# EAGLE library part BM14B(0.8)-24DS-0.4V(53) (library BM14B(0.8)-24DS-0.4V_pinout)
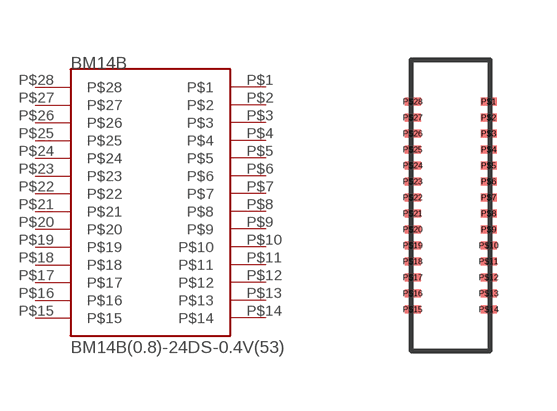
[diagram p1: symbol with the pads of BM14B(0.8)-24DS-0.4V(53); footprint BM14B(0.8)-24DS-0.4V(53)]

Designator prefix BM14B

## BM14B(0.8)-24DS-0.4V(53)  [BM14B(0.8)-24DS-0.4V(53)]
P$1  P$1
P$2  P$2
P$3  P$3
P$4  P$4
P$5  P$5
P$6  P$6
P$7  P$7
P$8  P$8
P$9  P$9
P$10  P$10
P$11  P$11
P$12  P$12
P$13  P$13
P$14  P$14
P$15  P$15
P$16  P$16
P$17  P$17
P$18  P$18
P$19  P$19
P$20  P$20
P$21  P$21
P$22  P$22
P$23  P$23
P$24  P$24
P$25  P$25
P$26  P$26
P$27  P$27
P$28  P$28

## Footprint BM14B(0.8)-24DS-0.4V(53) (pad centres in mm)
smd 0.4 x 0.2: P$1 0.95,2.6; P$2 0.95,2.2; P$3 0.95,1.8; P$4 0.95,1.4; P$5 0.95,1; P$6 0.95,0.6; P$7 0.95,0.2; P$8 0.95,-0.2; P$9 0.95,-0.6; P$10 0.95,-1; P$11 0.95,-1.4; P$12 0.95,-1.8; P$13 0.95,-2.2; P$14 0.95,-2.6; P$15 -0.95,-2.6; P$16 -0.95,-2.2; P$17 -0.95,-1.8; P$18 -0.95,-1.4; P$19 -0.95,-1; P$20 -0.95,-0.6; P$21 -0.95,-0.2; P$22 -0.95,0.2; P$23 -0.95,0.6; P$24 -0.95,1; P$25 -0.95,1.4; P$26 -0.95,1.8; P$27 -0.95,2.2; P$28 -0.95,2.6